# Altium integrated library xtal_2_pines.IntLib: 1 symbol
Pins are listed as number, name and electrical type; pins without a type are passive.

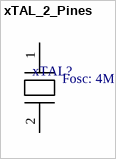
[diagram p0: symbol xTAL_2_Pines]

## xTAL_2_Pines
designator xTAL?, comment Fosc: 4MHz  (hidden comment: xTAL_2_Terminales)
Oscilador de Cristal 2 Terminales; Autor: ROUX, Federico G. (rouxfederico@gmail.com); Fecha: 05/2011; Empresa: Neróx 2011; Name: xTAL_2_Terminales
footprint BCY-W2/D1.5
footprint 3SMXA
footprint 4SMX
footprint 12SMXA
footprint BCY-F2/Z13
footprint BCY-W2/D2.1
footprint BCY-W2/D3.1
footprint BCY-W2/E4.7
footprint CFPX-93
footprint CX-1-SM
footprint HC49/4H_SMX
pins: 1, 2